# Altium schematic symbol library con-ebyelectro.SCHLIB: 5 symbols
Pins are listed as number, name and electrical type; pins without a type are passive.

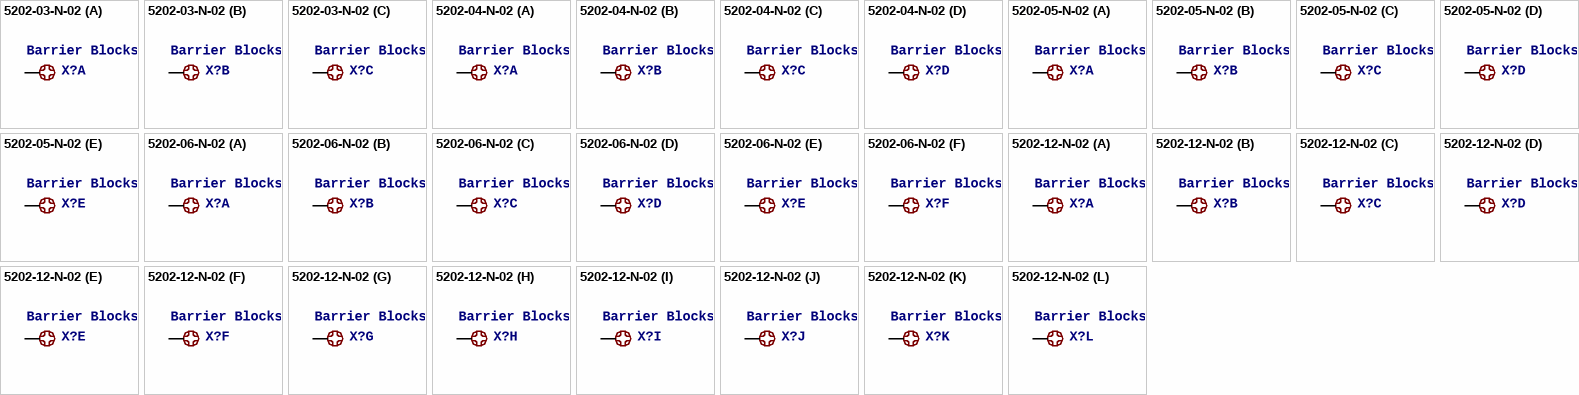
[diagram p0: symbols 5202-03-N-02 to 5202-12-N-02]

## 5202-03-N-02
designator X?, comment Barrier Blocks Sreies 5202   Source: http://www.ebyelectro.com/PDF/5202-XX-N-02.pdf
OC_FARNELL: unknown; OC_NEWARK: unknown
footprint 5202-03-N-02
part A pins: 2 1
part B pins: 3 1
part C pins: 1

## 5202-04-N-02
designator X?, comment Barrier Blocks Sreies 5202   Source: http://www.ebyelectro.com/PDF/5202-XX-N-02.pdf
OC_FARNELL: unknown; OC_NEWARK: unknown
footprint 5202-04-N-02
part A pins: 1
part B pins: 2 1
part C pins: 3 1
part D pins: 4 1

## 5202-05-N-02
designator X?, comment Barrier Blocks Sreies 5202   Source: http://www.ebyelectro.com/PDF/5202-XX-N-02.pdf
OC_FARNELL: unknown; OC_NEWARK: unknown
footprint 5202-05-N-02
part A pins: 1
part B pins: 2 1
part C pins: 3 1
part D pins: 4 1
part E pins: 5 1

## 5202-06-N-02
designator X?, comment Barrier Blocks Sreies 5202   Source: http://www.ebyelectro.com/PDF/5202-XX-N-02.pdf
OC_FARNELL: unknown; OC_NEWARK: unknown
footprint 5202-06-N-02
part A pins: 1
part B pins: 2 1
part C pins: 3 1
part D pins: 4 1
part E pins: 5 1
part F pins: 6 1

## 5202-12-N-02
designator X?, comment Barrier Blocks Sreies 5202   Source: http://www.ebyelectro.com/PDF/5202-XX-N-02.pdf
OC_FARNELL: unknown; OC_NEWARK: unknown
footprint 5202-12-N-02
part A pins: 1
part B pins: 2 1
part C pins: 3 1
part D pins: 4 1
part E pins: 5 1
part F pins: 6 1
part G pins: 7 1
part H pins: 8 1
part I pins: 9 1
part J pins: 10 1
part K pins: 11 1
part L pins: 12 1